# Altium footprint library senoko_pvt1.PcbLib: 31 footprints (part 1 of 2)
Each footprint in its own frame and in the unit in brackets; x right, y up, seen from the top. Pads: shape width x height; smd on the part's side, far side on the other; paste and mask are expansions set on the pad; w line width, h text height; cw(c..) or ccw(c..) is an arc to the next point about the centre after c.
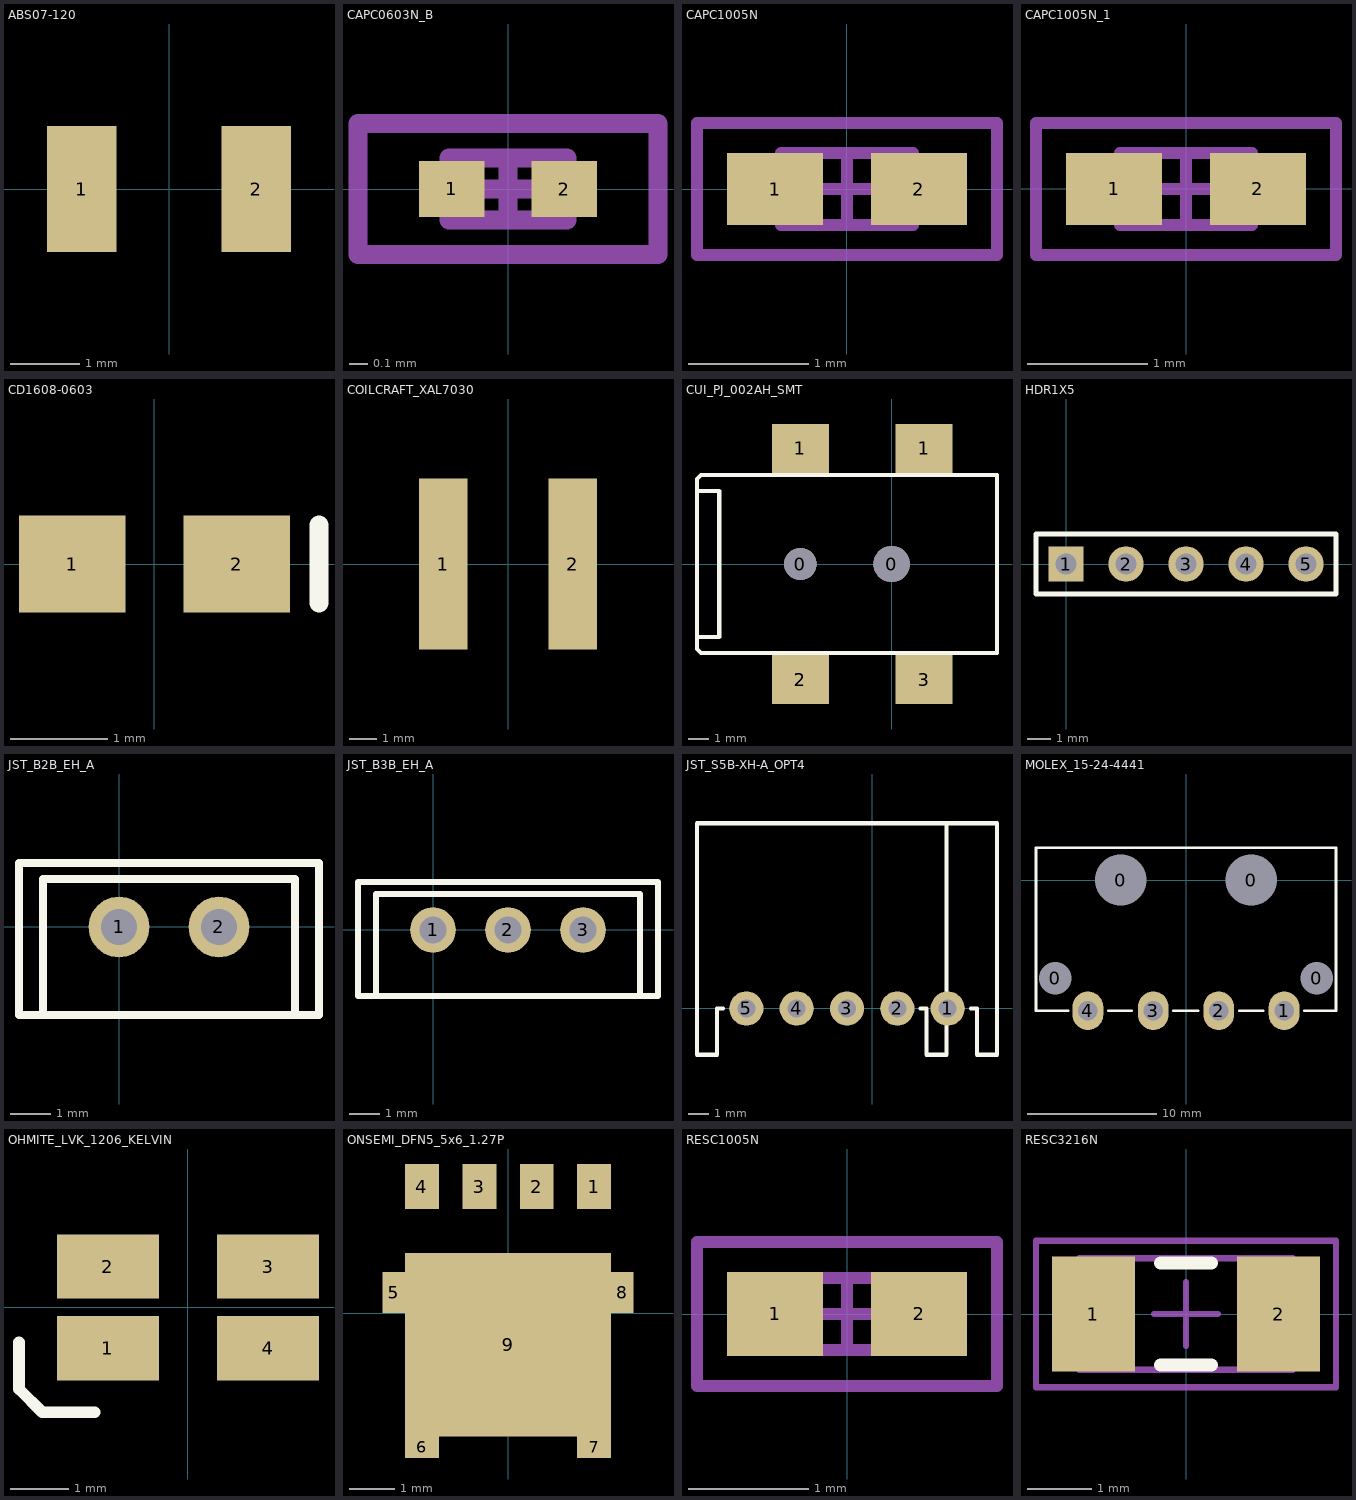
[diagram p0: the footprints below, top view; thin cyan lines are the x and y axes]

## ABS07-120 [mm] "32.768kHz SMD low-ESR"
height 0.9
pads (2):
  rect 1x1.8 smd: 1(-1.25,0) 2(1.25,0)
3D body: height 0.9, standoff 0, extent -1.6,-0.75 1.6,0.75

## CAPC0603N_B [mm] "Chip Capacitor, 2-Leads, Body 0.6x0.3mm, IPC Medium Density"
height 0.33
pads (2):
  rect 0.35x0.3 smd mask+0.07: 1(-0.3,0) 2(0.3,0)
Mechanical 13:
  lines w0.1: -0.315,-0.165 0.315,-0.165 0.315,0.165 -0.315,0.165 -0.315,-0.165
Mechanical 15:
  lines w0.1: -0.165,0 0.165,0 ; 0,-0.165 0,0.165 ; -0.8,-0.35 0.8,-0.35 0.8,0.35 -0.8,0.35 -0.8,-0.35
3D body: height 0.33, standoff 0, extent -0.315,-0.165 0.315,0.165

## CAPC1005N [mm] "Chip Capacitor, Body 1.0x0.5mm, IPC Medium Density"
height 0.6
pads (2):
  rect 0.8x0.6 smd: 1(-0.6,0) 2(0.6,0)
Mechanical 13:
  lines w0.1: -0.55,-0.3 -0.55,0.3 0.55,0.3 0.55,-0.3 -0.55,-0.3
Mechanical 15:
  lines w0.1: -0.3,0 0.3,0 ; 0,-0.3 0,0.3 ; -1.25,-0.55 -1.25,0.55 1.25,0.55 1.25,-0.55 -1.25,-0.55
3D body: height 0.6, standoff 0, extent -0.55,-0.3 0.55,0.3

## CAPC1005N_1 [mm] "Chip Capacitor, Body 1.0x0.5mm, IPC Medium Density"
height 0.6
pads (2):
  rect 0.8x0.6 smd: 1(-0.6,0) 2(0.6,0)
Mechanical 13:
  lines w0.1: -0.55,-0.3 -0.55,0.3 0.55,0.3 0.55,-0.3 -0.55,-0.3
Mechanical 15:
  lines w0.1: -0.3,0 0.3,0 ; 0,-0.3 0,0.3 ; -1.25,-0.55 -1.25,0.55 1.25,0.55 1.25,-0.55 -1.25,-0.55
3D body: height 0.6, standoff 0, extent -0.55,-0.3 0.55,0.3

## CD1608-0603 [mm] "Chip Diode; Body 1.6 x 0.8 mm (LxW typ)"
height 0.85
pads (2):
  rect 1.1x1 smd: 1(-0.85,0) 2(0.85,0)
Top Overlay:
  lines w0.2: 1.7,-0.4 1.7,0.4

## COILCRAFT_XAL7030 [mm] "XAL7030 inductor"
height 3.1
pads (2):
  rect 1.78x6.22 smd: 1(-2.36,0) 2(2.36,0)
3D body "Coilcraft-XAL7030-332-DEFAULT.STEP": height 3.1, standoff 0, extent -4,-4 4,4

## CUI_PJ_002AH_SMT [mm] "SMT 2.1mmx5.5mm ID (P-5) connector"
height 11
pads (6):
  round 1.6 hole 1.6 unplated: 0(-4.5,0)
  round 1.8 hole 1.8 unplated: 0(0,0)
  rect 2.8x2.4 smd: 1(-4.5,5.7) 1(1.6,5.7) 2(-4.5,-5.7) 3(1.6,-5.7)
Top Overlay:
  lines w0.203: -9.6,-3.6 -8.5,-3.6 -8.5,3.6 -9.6,3.6 ; -9.6,-4.2 -9.6,4.2 -9.4,4.4 -4.5,4.4 5.2,4.4 5.2,-4.4 -9.4,-4.4 -9.6,-4.2
3D body "PJ-002AH-SMT.stp": height 11.19, standoff -1.01, extent -9.5,-6.3 5.3,6.3

## HDR1X5 [mm] "Connector; Header; 5 Position"
pads (5):
  rect 1.5x1.5 hole 0.9: 1(0,0)
  round 1.5 hole 0.9: 2(2.54,0) 3(5.08,0) 4(7.62,0) 5(10.16,0)
Top Overlay:
  lines w0.2: -1.27,-1.27 11.43,-1.27 11.43,1.27 -1.27,1.27 -1.27,-1.27

## JST_B2B_EH_A [mil] "2-pin 2.5mm low cost connector"
height 236.22
pads (2):
  round 60 hole 35.43: 1(0,0) 2(98.42,0)
Top Overlay:
  lines w8: -74.8,-82.68 -74.8,47.24 173.23,47.24 173.23,-86.61 196.85,-86.61 196.85,62.99 -98.43,62.99 -98.43,0 -98.43,-86.61 177.17,-86.61
3D body: height 236.22, standoff 0, extent -98.43,-86.61 196.85,62.99

## JST_B3B_EH_A [mil] "3-pin 2.5mm low cost connector"
height 236.22
pads (3):
  round 60 hole 35.43: 1(0,0) 2(98.42,0) 3(196.85,0)
Top Overlay:
  lines w8: -74.8,-82.68 -74.8,47.24 271.65,47.24 271.65,-86.61 196.85,-86.61 ; 196.85,62.99 -98.43,62.99 ; -98.43,62.99 -98.43,0 -98.43,-86.61 196.85,-86.61 ; -98.43,62.99 295.28,62.99 295.28,-86.61 196.85,-86.61
3D body: height 236.22, standoff 0, extent -98.43,-86.61 295.28,62.99

## JST_S5B-XH-A_OPT4 [mm] "JST 5-pin 2.5mm RA male connector with 4-pin stuff option"
height 6.1
pads (5):
  round 1.7 hole 0.9 mask+0.07: 1(3.75,0) 2(1.25,0) 3(-1.25,0) 4(-3.75,0) 5(-6.25,0)
Top Overlay:
  lines w0.203: -7.4,0 -7.7,0 -7.7,-2.3 -8.7,-2.3 -8.7,9.2 6.2,9.2 6.2,0 6.2,-2.3 5.2,-2.3 5.2,0 4.9,0 ; 2.4,0 2.7,0 2.7,-2.3 3.7,-2.3 3.7,0 3.7,9.2
3D body: height 6.1, standoff 0, extent -8.7,-2.3 6.2,9.2

## MOLEX_15-24-4441 [mm] "4-pin classic PC disk drive power connector, RA"
height 8.8
pads (8):
  round 2.4 hole 2.54 unplated mask+0.07: 0(-10.16,-7.62) 0(10.16,-7.62)
  round 2.4 hole 3.99 unplated mask+0.07: 0(-5.08,0) 0(5.08,0)
  oval 2.4x3 hole 1.52 mask+0.07: 1(7.62,-10.16) 2(2.54,-10.16) 3(-2.54,-10.16) 4(-7.62,-10.16)
Top Overlay:
  lines w0.203: -9.15,-10.15 -11.65,-10.15 -11.65,2.5 11.65,2.5 11.65,-10.15 9.175,-10.15 ; -6.025,-10.15 -4.225,-10.15 ; -0.975,-10.15 0.95,-10.15 ; 4.15,-10.15 6,-10.15
3D body "disk_drive_ra_015244441.stp": height 8.79, standoff -3.53, extent -11.616,-10.878 11.65,2.775

## OHMITE_LVK_1206_KELVIN [mm] "4-terminal kelvin sense resistor, 1206 package"
height 0.65
pads (4):
  rect 1.75x1.1 smd mask+0.07: 1(-1.375,-0.7) 2(-1.375,0.7) 3(1.375,0.7) 4(1.375,-0.7)
Top Overlay:
  lines w0.2: -2.9,-0.6 -2.9,-1.4 -2.5,-1.8 -1.6,-1.8
3D body: height 0.65, standoff 0, extent -1.6,-0.8 1.6,0.8

## ONSEMI_DFN5_5x6_1.27P [mm] "DFN 5x6 package, power FET"
height 1.1
pads (9):
  rect 0.75x1 smd mask+0.07: 1(1.905,2.795) 2(0.635,2.795) 3(-0.635,2.795) 4(-1.905,2.795)
  rect 0.495x0.905 smd mask+0.07: 5(-2.528,0.453) 8(2.528,0.453)
  rect 0.75x0.475 smd mask+0.07: 6(-1.905,-2.963) 7(1.905,-2.963)
  rect 4.56x4.055 smd paste-3 mask+0.07: 9(0,-0.697)
Top Paste:
  rectangle: -2.125,-1.275 -0.925,-0.075
  rectangle: -0.6,-1.275 0.6,-0.075
  rectangle: 0.925,-1.275 2.125,-0.075
  rectangle: -2.125,0.075 -0.925,1.275
  rectangle: -0.6,0.075 0.6,1.275
  rectangle: 0.925,0.075 2.125,1.275
  rectangle: 0.925,-2.65 2.125,-1.45
  rectangle: -0.6,-2.65 0.6,-1.45
  rectangle: -2.125,-2.65 -0.925,-1.45
3D body: height 1.1, standoff 0, extent -2.425,-3 2.475,2.8

## RESC1005N [mm] "Chip Resistor, Body 1.1x0.5mm, IPC Medium Density"
height 0.4
pads (2):
  rect 0.8x0.7 smd: 1(-0.6,0) 2(0.6,0)
Mechanical 13:
  lines w0.1: -0.55,-0.3 -0.55,0.3 0.55,0.3 0.55,-0.3 -0.55,-0.3
Mechanical 15:
  lines w0.1: -0.3,0 0.3,0 ; 0,-0.3 0,0.3 ; -1.25,-0.6 -1.25,0.6 1.25,0.6 1.25,-0.6 -1.25,-0.6
3D body: height 0.4, standoff 0, extent -0.55,-0.3 0.55,0.3

## RESC3216N [mm] "Chip Resistor, Body 3.2x1.6mm, IPC Medium Density"
height 0.71
pads (2):
  rect 1.3x1.8 smd: 1(-1.45,0) 2(1.45,0)
Top Overlay:
  lines w0.2: -0.4,-0.8 0.4,-0.8 ; -0.4,0.8 0.4,0.8
Mechanical 13:
  lines w0.1: -1.675,-0.875 1.675,-0.875 1.675,0.875 -1.675,0.875 -1.675,-0.875
Mechanical 15:
  lines w0.1: -0.5,0 0.5,0 ; 0,-0.5 0,0.5 ; -2.35,-1.15 2.35,-1.15 2.35,1.15 -2.35,1.15 -2.35,-1.15
3D body: height 0.71, standoff 0, extent -1.675,-0.875 1.675,0.875